# EAGLE library part MAX489 (library NASA_LIB)
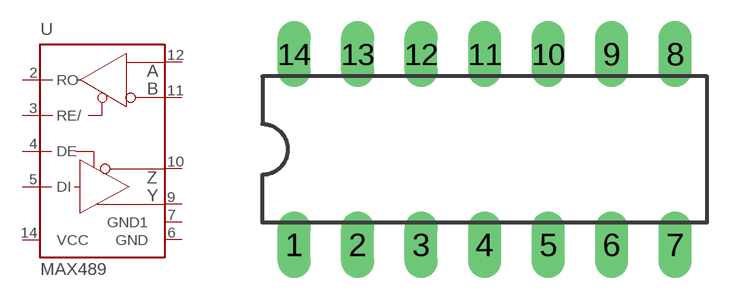
[diagram p18: symbol with the pads of DIP-14; footprint DIP-14]

Designator prefix -

## MAX489  [DIP-14]
2  RO  out
3  RE/  in
4  DE  in
5  DI  in
6  GND  in
7  GND1  in
9  Y  pas
10  Z  pas
11  B  pas
12  A  pas
14  VCC  in

## Footprint DIP-14 (pad centres in mm)
drill 0.813 long: 1 -7.62,-3.81; 2 -5.08,-3.81; 3 -2.54,-3.81; 4 0,-3.81; 5 2.54,-3.81; 6 5.08,-3.81; 7 7.62,-3.81; 8 7.62,3.81; 9 5.08,3.81; 10 2.54,3.81; 11 0,3.81; 12 -2.54,3.81; 13 -5.08,3.81; 14 -7.62,3.81